# Altium footprint library 2N7002.PcbLib: 3 footprints
Each footprint in its own frame and in the unit in brackets; x right, y up, seen from the top. Pads: shape width x height; smd on the part's side, far side on the other; paste and mask are expansions set on the pad; w line width, h text height; cw(c..) or ccw(c..) is an arc to the next point about the centre after c.
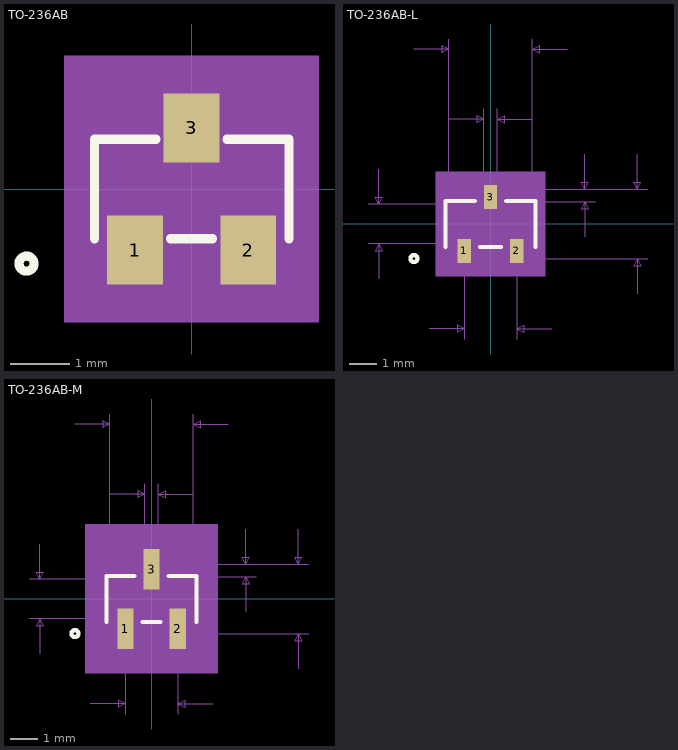
[diagram p0: the footprints below, top view; thin cyan lines are the x and y axes]

## TO-236AB [mil]
pads (3):
  rect 37x46 smd: 1(-37.5,-40.5) 2(37.5,-40.5) 3(0,40.5)
Top Overlay:
  circle w6: c-109.5,-49.5 r5
  lines w6: -64.5,-33 -64.5,33 -23.6,33 ; -13.9,-33 13.9,-33 ; 23.6,33 64.5,33 64.5,-33
Mechanical 5:
  region: -84.5,88.5 84.5,88.5 84.5,-88.5 -84.5,-88.5
Mechanical 13:
  circle w0: c-49.5,-18 r5
  lines w1: -59.5,-28 59.5,-28 59.5,28 -59.5,28 -59.5,-28 ; -47,-49.5 -47,-28 -28,-28 -28,-49.5 -47,-49.5 ; -9.5,28 9.5,28 9.5,49.5 -9.5,49.5 -9.5,28 ; 28,-49.5 28,-28 47,-28 47,-49.5 28,-49.5
Mechanical 15:
  region: -69.5,-38 -69.5,38 -19.5,38 -19.5,73.5 19.5,73.5 19.5,38 69.5,38 69.5,-38 57,-38 57,-73.5 -57,-73.5 -57,-38
  region: 59.5,-28 -59.5,-28 -59.5,28 59.5,28
  lines w6: -69.5,-38 -69.5,38 -19.5,38 -19.5,73.5 19.5,73.5 19.5,38 69.5,38 69.5,-38 57,-38 57,-73.5 -57,-73.5 -57,-38 -69.5,-38
3D body "CircuitWorks-SOT-23.step": height 41.65, standoff -1.65, extent -59.06,-49.21 59.06,49.21
3D body: height 10, standoff 0, extent 0,0 10,10

## TO-236AB-L [mil]
pads (3):
  rect 19x34 smd paste+0 mask+0: 1(-37.5,-38.5) 2(37.5,-38.5) 3(0,38.5)
Top Overlay:
  circle w6: c-109.5,-49.5 r5
  lines w6: -64.5,-33 -64.5,33 -22.6,33 ; -14.9,-33 14.9,-33 ; 22.6,33 64.5,33 64.5,-33
Mechanical 5:
  region: -78.5,74.5 78.5,74.5 78.5,-74.5 -78.5,-74.5
Mechanical 7:
  lines w1: -174.5,-28 0,-28 ; -174.5,28 0,28 ; -159.5,-78 -159.5,-28 ; -159.5,78 -159.5,28 ; -109.5,249.5 -59.5,249.5 ; -87.5,-149.5 -37.5,-149.5 ; -59.5,28 -59.5,264.5 ; -59.5,149.5 -9.5,149.5 ; -37.5,-164.5 -37.5,-49.5 ; -9.5,49.5 -9.5,164.5 ; 0,-49.5 224.5,-49.5 ; 0,31.5 149.5,31.5 ; 9.5,49.5 9.5,164.5 ; 37.5,-164.5 37.5,-49.5 ; 59.5,28 59.5,264.5 ; 59.5,149.5 9.5,149.5 ; 87.5,-149.5 37.5,-149.5 ; 109.5,249.5 59.5,249.5 ; 134.5,-18.5 134.5,31.5 ; 134.5,99.5 134.5,49.5 ; 149.5,49.5 0,49.5 224.5,49.5 ; 209.5,-99.5 209.5,-49.5 ; 209.5,99.5 209.5,49.5 ; -159.5,-28 -164.5,-38 -154.5,-38 -159.5,-28 ; -159.5,28 -164.5,38 -154.5,38 -159.5,28 ; -59.5,249.5 -69.5,254.5 -69.5,244.5 -59.5,249.5 ; -37.5,-149.5 -47.5,-144.5 -47.5,-154.5 -37.5,-149.5 ; -9.5,149.5 -19.5,154.5 -19.5,144.5 -9.5,149.5 ; 9.5,149.5 19.5,154.5 19.5,144.5 9.5,149.5 ; 37.5,-149.5 47.5,-144.5 47.5,-154.5 37.5,-149.5 ; 59.5,249.5 69.5,254.5 69.5,244.5 59.5,249.5 ; 134.5,31.5 129.5,21.5 139.5,21.5 134.5,31.5 ; 134.5,49.5 129.5,59.5 139.5,59.5 134.5,49.5 ; 209.5,-49.5 204.5,-59.5 214.5,-59.5 209.5,-49.5 ; 209.5,49.5 204.5,59.5 214.5,59.5 209.5,49.5
  text "Top Padstyle: RX19Y34D0T" at -300,-305.5 h50
  text "Bottom Padstyle: RX19Y34D0T" at -337.5,-380.5 h50
  text "Alt 1 Padstyle: OX60Y90D30P" at -337.5,-455.5 h50
  text "Alt 2 Padstyle: OX90Y60D30P" at -337.5,-530.5 h50
  text "0.099in/2.515mm" at 229.5,-12.5 h25
  text "0.018in/0.457mm" at 154.5,28 h25
  text "0.075in/1.905mm" at -93.75,-194.5 h25
  text "0.019in/0.483mm" at -93.75,169.5 h25
  text "0.119in/3.023mm" at -93.75,269.5 h25
  text "0.056in/1.422mm" at -367,-12.5 h25
Mechanical 13:
  circle w0: c-49.5,-18 r5
  lines w1: -59.5,-28 59.5,-28 59.5,28 -59.5,28 -59.5,-28 ; -47,-49.5 -47,-28 -28,-28 -28,-49.5 -47,-49.5 ; -9.5,28 9.5,28 9.5,49.5 -9.5,49.5 -9.5,28 ; 28,-49.5 28,-28 47,-28 47,-49.5 28,-49.5
Mechanical 15:
  region: -63.5,-32 -63.5,32 -13.5,32 -13.5,59.5 13.5,59.5 13.5,32 63.5,32 63.5,-32 51,-32 51,-59.5 -51,-59.5 -51,-32
  region: 59.5,-28 -59.5,-28 -59.5,28 59.5,28
  lines w6: -63.5,-32 -63.5,32 -13.5,32 -13.5,59.5 13.5,59.5 13.5,32 63.5,32 63.5,-32 51,-32 51,-59.5 -51,-59.5 -51,-32 -63.5,-32
3D body: height 10, standoff 0, extent 0,0 10,10

## TO-236AB-M [mil]
pads (3):
  rect 23x58 smd paste+0 mask+0: 1(-37.5,-42.5) 2(37.5,-42.5) 3(0,42.5)
Top Overlay:
  circle w6: c-109.5,-49.5 r5
  lines w6: -64.5,-33 -64.5,33 -24.6,33 ; -12.9,-33 12.9,-33 ; 24.6,33 64.5,33 64.5,-33
Mechanical 5:
  region: -94.5,106.5 94.5,106.5 94.5,-106.5 -94.5,-106.5
Mechanical 7:
  lines w1: -174.5,-28 0,-28 ; -174.5,28 0,28 ; -159.5,-78 -159.5,-28 ; -159.5,78 -159.5,28 ; -109.5,249.5 -59.5,249.5 ; -87.5,-149.5 -37.5,-149.5 ; -59.5,28 -59.5,264.5 ; -59.5,149.5 -9.5,149.5 ; -37.5,-164.5 -37.5,-49.5 ; -9.5,49.5 -9.5,164.5 ; 0,-49.5 224.5,-49.5 ; 0,31.5 149.5,31.5 ; 9.5,49.5 9.5,164.5 ; 37.5,-164.5 37.5,-49.5 ; 59.5,28 59.5,264.5 ; 59.5,149.5 9.5,149.5 ; 87.5,-149.5 37.5,-149.5 ; 109.5,249.5 59.5,249.5 ; 134.5,-18.5 134.5,31.5 ; 134.5,99.5 134.5,49.5 ; 149.5,49.5 0,49.5 224.5,49.5 ; 209.5,-99.5 209.5,-49.5 ; 209.5,99.5 209.5,49.5 ; -159.5,-28 -164.5,-38 -154.5,-38 -159.5,-28 ; -159.5,28 -164.5,38 -154.5,38 -159.5,28 ; -59.5,249.5 -69.5,254.5 -69.5,244.5 -59.5,249.5 ; -37.5,-149.5 -47.5,-144.5 -47.5,-154.5 -37.5,-149.5 ; -9.5,149.5 -19.5,154.5 -19.5,144.5 -9.5,149.5 ; 9.5,149.5 19.5,154.5 19.5,144.5 9.5,149.5 ; 37.5,-149.5 47.5,-144.5 47.5,-154.5 37.5,-149.5 ; 59.5,249.5 69.5,254.5 69.5,244.5 59.5,249.5 ; 134.5,31.5 129.5,21.5 139.5,21.5 134.5,31.5 ; 134.5,49.5 129.5,59.5 139.5,59.5 134.5,49.5 ; 209.5,-49.5 204.5,-59.5 214.5,-59.5 209.5,-49.5 ; 209.5,49.5 204.5,59.5 214.5,59.5 209.5,49.5
  text "Top Padstyle: RX23Y58D0T" at -300,-321.5 h50
  text "Bottom Padstyle: RX23Y58D0T" at -337.5,-396.5 h50
  text "Alt 1 Padstyle: OX60Y90D30P" at -337.5,-471.5 h50
  text "Alt 2 Padstyle: OX90Y60D30P" at -337.5,-546.5 h50
  text "0.099in/2.515mm" at 229.5,-12.5 h25
  text "0.018in/0.457mm" at 154.5,28 h25
  text "0.075in/1.905mm" at -93.75,-194.5 h25
  text "0.019in/0.483mm" at -93.75,169.5 h25
  text "0.119in/3.023mm" at -93.75,269.5 h25
  text "0.056in/1.422mm" at -367,-12.5 h25
Mechanical 13:
  circle w0: c-49.5,-18 r5
  lines w1: -59.5,-28 59.5,-28 59.5,28 -59.5,28 -59.5,-28 ; -47,-49.5 -47,-28 -28,-28 -28,-49.5 -47,-49.5 ; -9.5,28 9.5,28 9.5,49.5 -9.5,49.5 -9.5,28 ; 28,-49.5 28,-28 47,-28 47,-49.5 28,-49.5
Mechanical 15:
  region: -79.5,-48 -79.5,48 -31.5,48 -31.5,91.5 31.5,91.5 31.5,48 79.5,48 79.5,-48 69,-48 69,-91.5 -69,-91.5 -69,-48
  region: 59.5,-28 -59.5,-28 -59.5,28 59.5,28
  lines w6: -79.5,-48 -79.5,48 -31.5,48 -31.5,91.5 31.5,91.5 31.5,48 79.5,48 79.5,-48 69,-48 69,-91.5 -69,-91.5 -69,-48 -79.5,-48
3D body: height 10, standoff 0, extent 0,0 10,10